# Altium schematic symbol library Allegro Microsystems.SchLib: 1 symbol
Pins are listed as number, name and electrical type; pins without a type are passive.

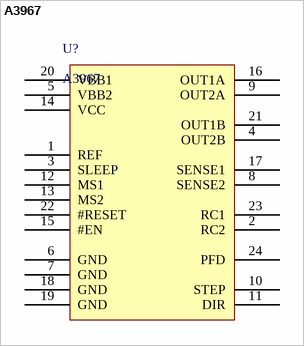
[diagram p0: symbol A3967]

## A3967
designator U?
pins: 1 REF, 2 RC2, 3 SLEEP, 4 OUT2B, 5 VBB2, 6 GND, 7 GND, 8 SENSE2, 9 OUT2A, 10 STEP, 11 DIR, 12 MS1, 13 MS2, 14 VCC, 15 #EN, 16 OUT1A, 17 SENSE1, 18 GND, 19 GND, 20 VBB1, 21 OUT1B, 22 #RESET, 23 RC1, 24 PFD